# EAGLE library part ICSP_SMD (library MRDT-2015-General)
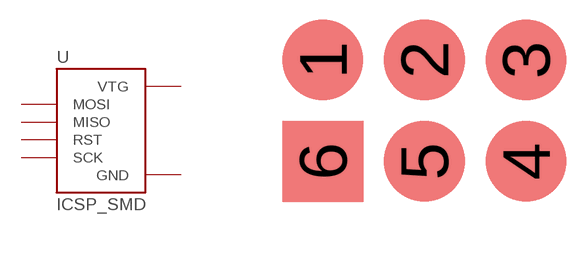
[diagram p0: symbol with the pads of ICSP; footprint ICSP]

Designator prefix -

## ICSP_SMD  [ICSP]
1  VTG
2  MOSI
3  GND
4  RST
5  SCK
6  MISO

## Footprint ICSP (pad centres in mm)
smd 2.032 x 2.032: 1 -2.54,1.27; 2 0,1.27; 3 2.54,1.27; 4 2.54,-1.27; 5 0,-1.27; 6 -2.54,-1.27